# Altium schematic symbol library processor_allwinner.SchLib: 1 symbol
Pins are listed as number, name and electrical type; pins without a type are passive.

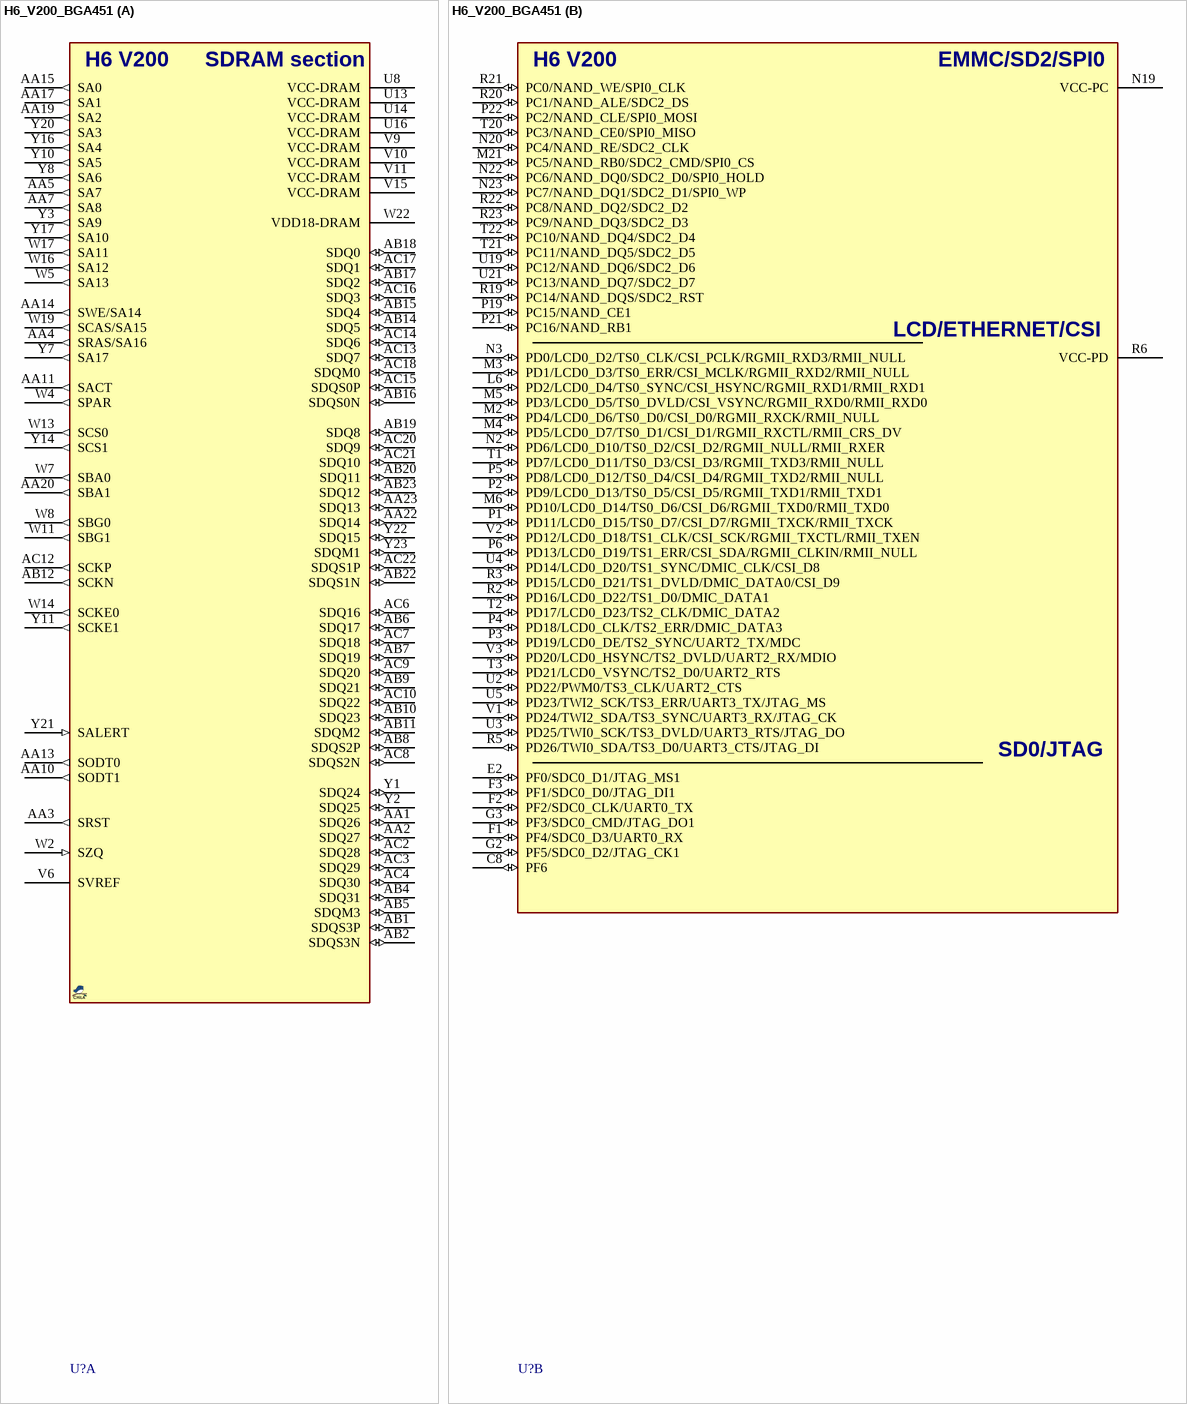
[diagram p0: symbol H6_V200_BGA451]

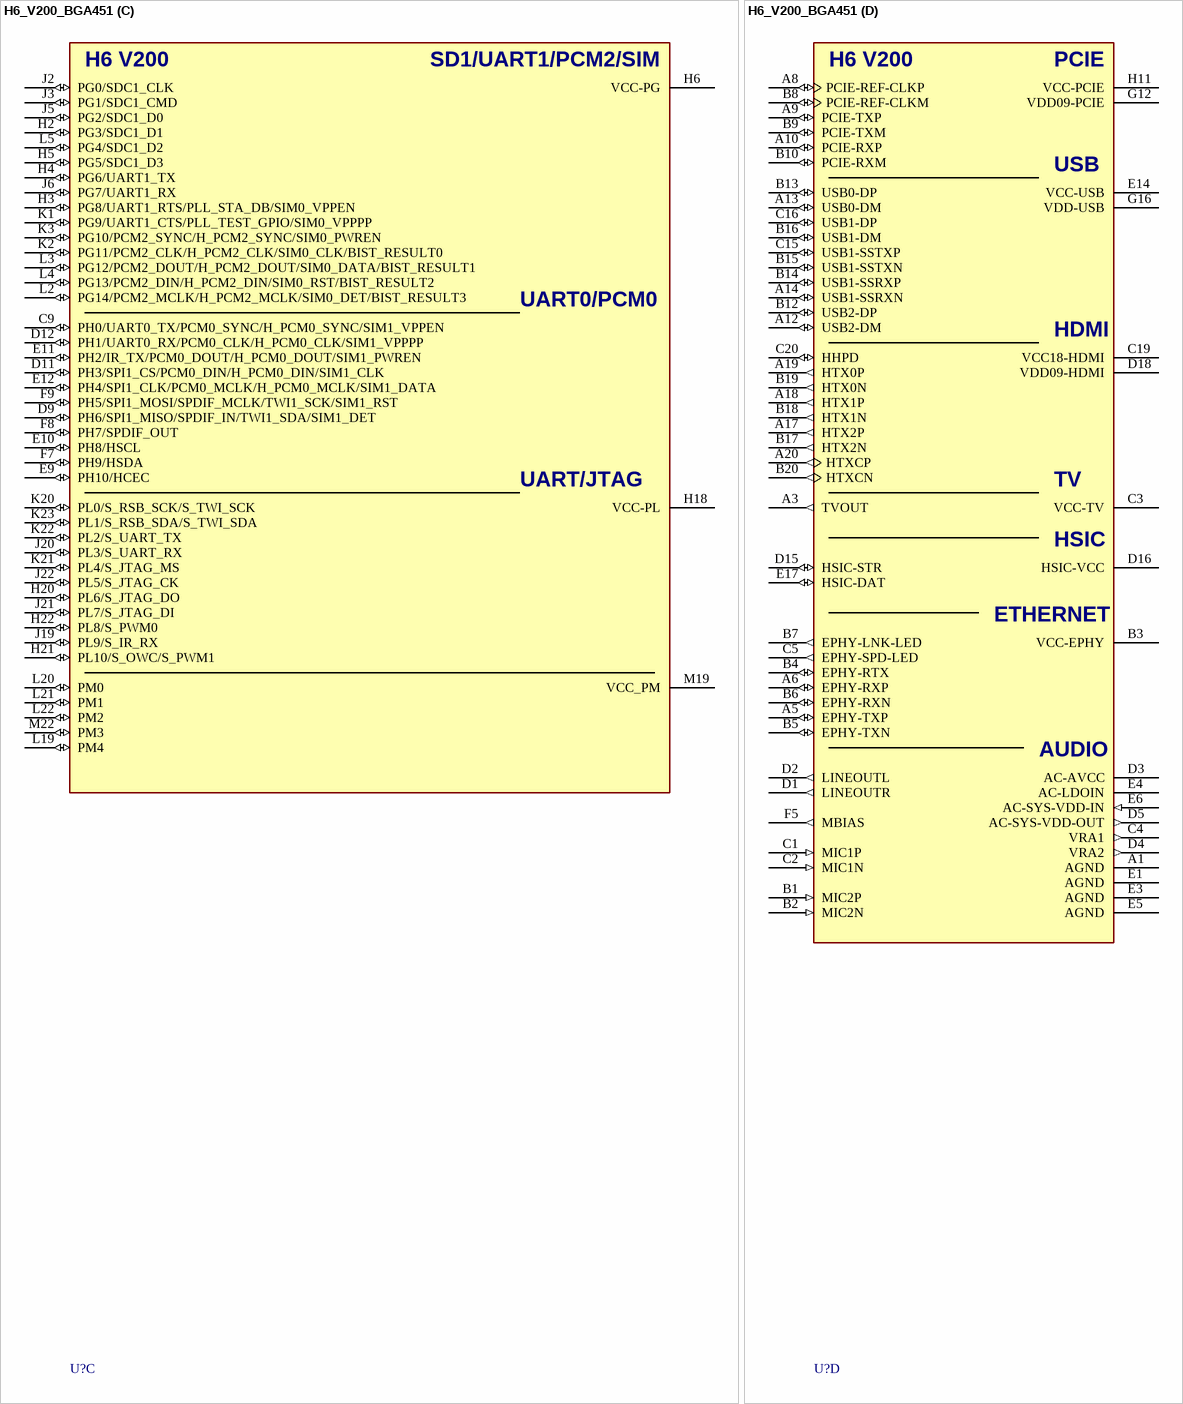
[diagram p1: symbol H6_V200_BGA451]

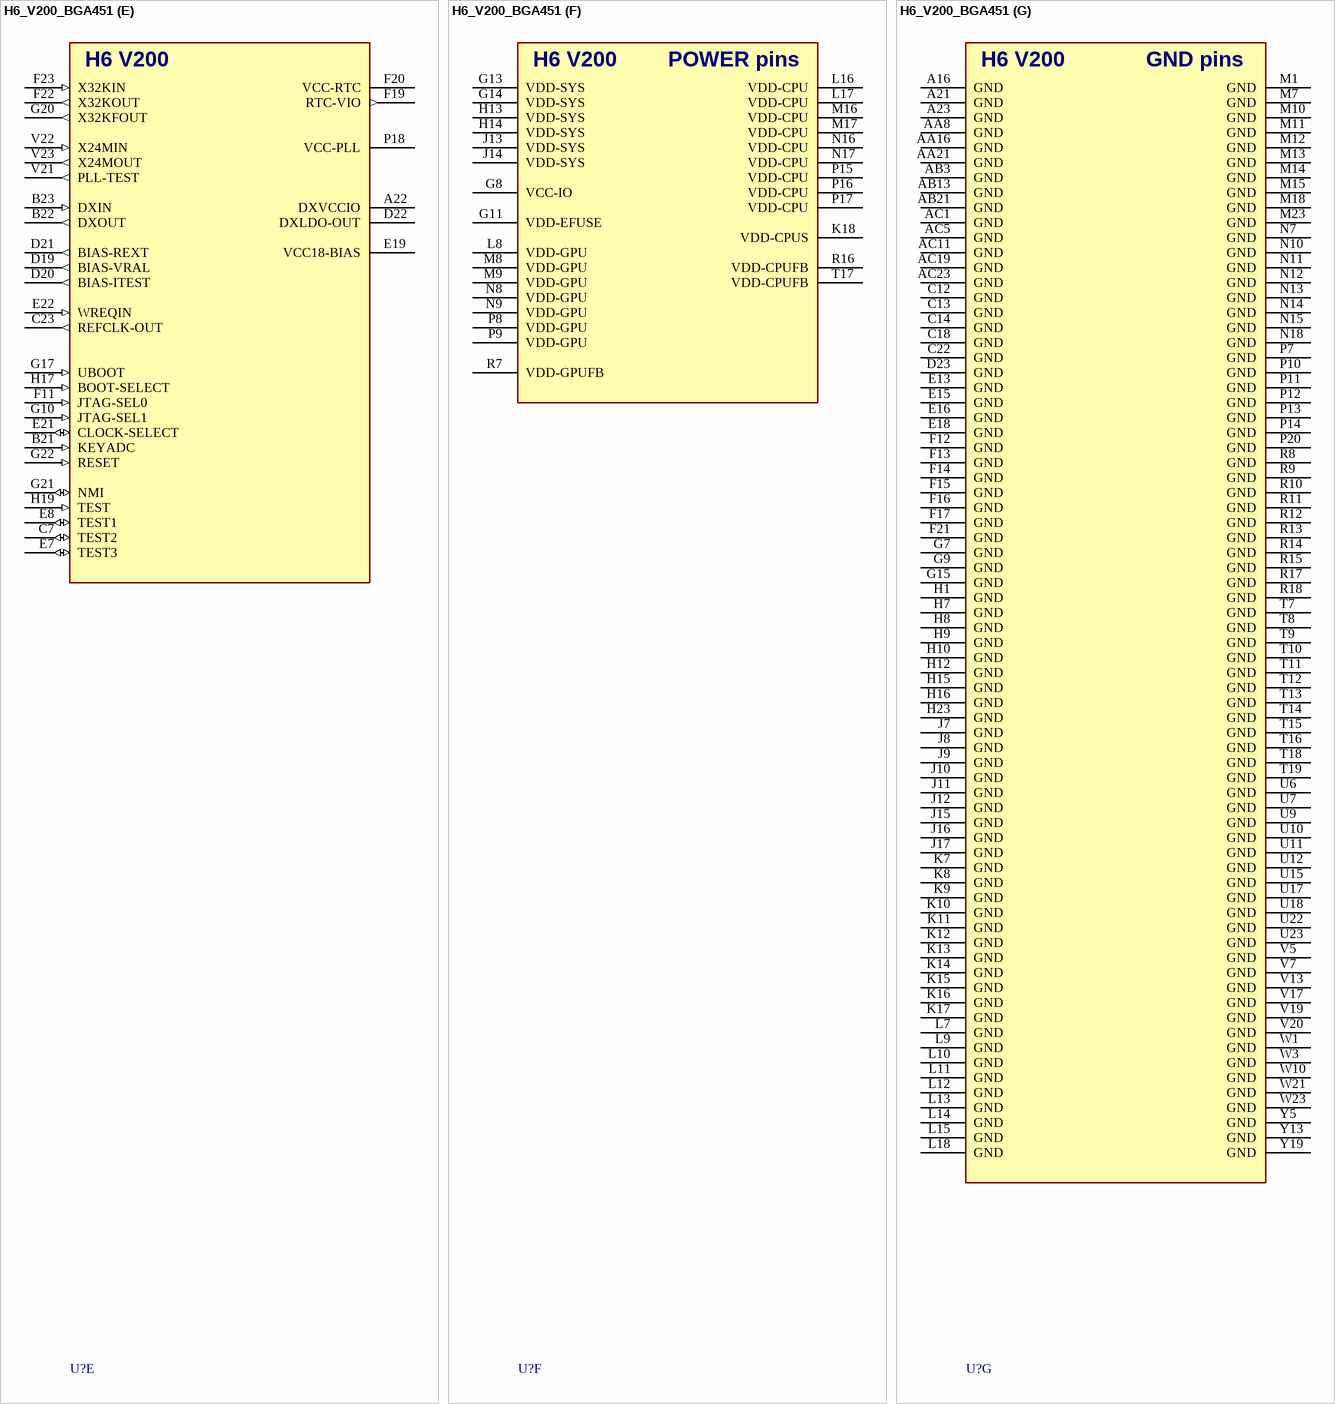
[diagram p2: symbol H6_V200_BGA451]

## H6_V200_BGA451
designator U?, comment Allwinner H6  (value not drawn)
Processor, 4x Cortex-A53; MANF_P#: H6 V200; MANF: Allwinner; PARAM: 4x Cortex-A53; PRICE: 9$; VALUE: Allwinner H6
footprint BGA65_451_S15 (ALLWINNER H6, pitch 0.65mm, 15x15x1.2mm)
part A pins: AA1 SDQ26 (io), AA2 SDQ27 (io), AA3 SRST (out), AA4 SRAS/SA16 (out), AA5 SA7 (out), AA7 SA8 (out), AA10 SODT1 (out), AA11 SACT (out), AA13 SODT0 (out), AA14 SWE/SA14 (out), AA15 SA0 (out), AA17 SA1 (out), AA19 SA2 (out), AA20 SBA1 (out), AA22 SDQ14 (io), AA23 SDQ13 (io), AB1 SDQS3P (io), AB2 SDQS3N (io), AB4 SDQ31 (io), AB5 SDQM3 (io), AB6 SDQ17 (io), AB7 SDQ19 (io), AB8 SDQS2P (io), AB9 SDQ21 (io), AB10 SDQ23 (io), AB11 SDQM2 (io), AB12 SCKN (out), AB14 SDQ5 (io), AB15 SDQ4 (io), AB16 SDQS0N (io), AB17 SDQ2 (io), AB18 SDQ0 (io), AB19 SDQ8 (io), AB20 SDQ11 (io), AB22 SDQS1N (io), AB23 SDQ12 (io), AC2 SDQ28 (io), AC3 SDQ29 (io), AC4 SDQ30 (io), AC6 SDQ16 (io), AC7 SDQ18 (io), AC8 SDQS2N (io), AC9 SDQ20 (io), AC10 SDQ22 (io), AC12 SCKP (out), AC13 SDQ7 (io), AC14 SDQ6 (io), AC15 SDQS0P (io), AC16 SDQ3 (io), AC17 SDQ1 (io), AC18 SDQM0 (io), AC20 SDQ9 (io), AC21 SDQ10 (io), AC22 SDQS1P (io), U8 VCC-DRAM (power), U13 VCC-DRAM (power), U14 VCC-DRAM (power), U16 VCC-DRAM (power), V6 SVREF (power), V9 VCC-DRAM (power), V10 VCC-DRAM (power), V11 VCC-DRAM (power), V15 VCC-DRAM (power), W2 SZQ (in), W4 SPAR (out), W5 SA13 (out), W7 SBA0 (out), W8 SBG0 (out), W11 SBG1 (out), W13 SCS0 (out), W14 SCKE0 (out), W16 SA12 (out), W17 SA11 (out), W19 SCAS/SA15 (out), W22 VDD18-DRAM (power), Y1 SDQ24 (io), Y2 SDQ25 (io), Y3 SA9 (out), Y7 SA17 (out), Y8 SA6 (out), Y10 SA5 (out), Y11 SCKE1 (out), Y14 SCS1 (out), Y16 SA4 (out), Y17 SA10 (out), Y20 SA3 (out), Y21 SALERT (in), Y22 SDQ15 (io), Y23 SDQM1 (io)
part B pins: C8 PF6 (io), E2 PF0/SDC0_D1/JTAG_MS1 (io), F1 PF4/SDC0_D3/UART0_RX (io), F2 PF2/SDC0_CLK/UART0_TX (io), F3 PF1/SDC0_D0/JTAG_DI1 (io), G2 PF5/SDC0_D2/JTAG_CK1 (io), G3 PF3/SDC0_CMD/JTAG_DO1 (io), L6 PD2/LCD0_D4/TS0_SYNC/CSI_HSYNC/RGMII_RXD1/RMII_RXD1 (io), M2 PD4/LCD0_D6/TS0_D0/CSI_D0/RGMII_RXCK/RMII_NULL (io), M3 PD1/LCD0_D3/TS0_ERR/CSI_MCLK/RGMII_RXD2/RMII_NULL (io), M4 PD5/LCD0_D7/TS0_D1/CSI_D1/RGMII_RXCTL/RMII_CRS_DV (io), M5 PD3/LCD0_D5/TS0_DVLD/CSI_VSYNC/RGMII_RXD0/RMII_RXD0 (io), M6 PD10/LCD0_D14/TS0_D6/CSI_D6/RGMII_TXD0/RMII_TXD0 (io), M21 PC5/NAND_RB0/SDC2_CMD/SPI0_CS (io), N2 PD6/LCD0_D10/TS0_D2/CSI_D2/RGMII_NULL/RMII_RXER (io), N3 PD0/LCD0_D2/TS0_CLK/CSI_PCLK/RGMII_RXD3/RMII_NULL (io), N19 VCC-PC (power), N20 PC4/NAND_RE/SDC2_CLK (io), N22 PC6/NAND_DQ0/SDC2_D0/SPI0_HOLD (io), N23 PC7/NAND_DQ1/SDC2_D1/SPI0_WP (io), P1 PD11/LCD0_D15/TS0_D7/CSI_D7/RGMII_TXCK/RMII_TXCK (io), P2 PD9/LCD0_D13/TS0_D5/CSI_D5/RGMII_TXD1/RMII_TXD1 (io), P3 PD19/LCD0_DE/TS2_SYNC/UART2_TX/MDC (io), P4 PD18/LCD0_CLK/TS2_ERR/DMIC_DATA3 (io), P5 PD8/LCD0_D12/TS0_D4/CSI_D4/RGMII_TXD2/RMII_NULL (io), P6 PD13/LCD0_D19/TS1_ERR/CSI_SDA/RGMII_CLKIN/RMII_NULL (io), P19 PC15/NAND_CE1 (io), P21 PC16/NAND_RB1 (io), P22 PC2/NAND_CLE/SPI0_MOSI (io), R2 PD16/LCD0_D22/TS1_D0/DMIC_DATA1 (io), R3 PD15/LCD0_D21/TS1_DVLD/DMIC_DATA0/CSI_D9 (io), R5 PD26/TWI0_SDA/TS3_D0/UART3_CTS/JTAG_DI (io), R6 VCC-PD (power), R19 PC14/NAND_DQS/SDC2_RST (io), R20 PC1/NAND_ALE/SDC2_DS (io), R21 PC0/NAND_WE/SPI0_CLK (io), R22 PC8/NAND_DQ2/SDC2_D2 (io), R23 PC9/NAND_DQ3/SDC2_D3 (io), T1 PD7/LCD0_D11/TS0_D3/CSI_D3/RGMII_TXD3/RMII_NULL (io), T2 PD17/LCD0_D23/TS2_CLK/DMIC_DATA2 (io), T3 PD21/LCD0_VSYNC/TS2_D0/UART2_RTS (io), T20 PC3/NAND_CE0/SPI0_MISO (io), T21 PC11/NAND_DQ5/SDC2_D5 (io), T22 PC10/NAND_DQ4/SDC2_D4 (io), U2 PD22/PWM0/TS3_CLK/UART2_CTS (io), U3 PD25/TWI0_SCK/TS3_DVLD/UART3_RTS/JTAG_DO (io), U4 PD14/LCD0_D20/TS1_SYNC/DMIC_CLK/CSI_D8 (io), U5 PD23/TWI2_SCK/TS3_ERR/UART3_TX/JTAG_MS (io), U19 PC12/NAND_DQ6/SDC2_D6 (io), U21 PC13/NAND_DQ7/SDC2_D7 (io), V1 PD24/TWI2_SDA/TS3_SYNC/UART3_RX/JTAG_CK (io), V2 PD12/LCD0_D18/TS1_CLK/CSI_SCK/RGMII_TXCTL/RMII_TXEN (io), V3 PD20/LCD0_HSYNC/TS2_DVLD/UART2_RX/MDIO (io)
part C pins: C9 PH0/UART0_TX/PCM0_SYNC/H_PCM0_SYNC/SIM1_VPPEN (io), D9 PH6/SPI1_MISO/SPDIF_IN/TWI1_SDA/SIM1_DET (io), D11 PH3/SPI1_CS/PCM0_DIN/H_PCM0_DIN/SIM1_CLK (io), D12 PH1/UART0_RX/PCM0_CLK/H_PCM0_CLK/SIM1_VPPPP (io), E9 PH10/HCEC (io), E10 PH8/HSCL (io), E11 PH2/IR_TX/PCM0_DOUT/H_PCM0_DOUT/SIM1_PWREN (io), E12 PH4/SPI1_CLK/PCM0_MCLK/H_PCM0_MCLK/SIM1_DATA (io), F7 PH9/HSDA (io), F8 PH7/SPDIF_OUT (io), F9 PH5/SPI1_MOSI/SPDIF_MCLK/TWI1_SCK/SIM1_RST (io), H2 PG3/SDC1_D1 (io), H3 PG8/UART1_RTS/PLL_STA_DB/SIM0_VPPEN (io), H4 PG6/UART1_TX (io), H5 PG5/SDC1_D3 (io), H6 VCC-PG (power), H18 VCC-PL (power), H20 PL6/S_JTAG_DO (io), H21 PL10/S_OWC/S_PWM1 (io), H22 PL8/S_PWM0 (io), J2 PG0/SDC1_CLK (io), J3 PG1/SDC1_CMD (io), J5 PG2/SDC1_D0 (io), J6 PG7/UART1_RX (io), J19 PL9/S_IR_RX (io), J20 PL3/S_UART_RX (io), J21 PL7/S_JTAG_DI (io), J22 PL5/S_JTAG_CK (io), K1 PG9/UART1_CTS/PLL_TEST_GPIO/SIM0_VPPPP (io), K2 PG11/PCM2_CLK/H_PCM2_CLK/SIM0_CLK/BIST_RESULT0 (io), K3 PG10/PCM2_SYNC/H_PCM2_SYNC/SIM0_PWREN (io), K20 PL0/S_RSB_SCK/S_TWI_SCK (io), K21 PL4/S_JTAG_MS (io), K22 PL2/S_UART_TX (io), K23 PL1/S_RSB_SDA/S_TWI_SDA (io), L2 PG14/PCM2_MCLK/H_PCM2_MCLK/SIM0_DET/BIST_RESULT3 (io), L3 PG12/PCM2_DOUT/H_PCM2_DOUT/SIM0_DATA/BIST_RESULT1 (io), L4 PG13/PCM2_DIN/H_PCM2_DIN/SIM0_RST/BIST_RESULT2 (io), L5 PG4/SDC1_D2 (io), L19 PM4 (io), L20 PM0 (io), L21 PM1 (io), L22 PM2 (io), M19 VCC_PM (power), M22 PM3 (io)
part D pins: A1 AGND (power), A3 TVOUT (out), A5 EPHY-TXP (io), A6 EPHY-RXP (io), A8 PCIE-REF-CLKP (io), A9 PCIE-TXP (io), A10 PCIE-RXP (io), A12 USB2-DM (io), A13 USB0-DM (io), A14 USB1-SSRXN (io), A17 HTX2P (out), A18 HTX1P (out), A19 HTX0P (out), A20 HTXCP (out), B1 MIC2P (in), B2 MIC2N (in), B3 VCC-EPHY (power), B4 EPHY-RTX (io), B5 EPHY-TXN (io), B6 EPHY-RXN (io), B7 EPHY-LNK-LED (out), B8 PCIE-REF-CLKM (io), B9 PCIE-TXM (io), B10 PCIE-RXM (io), B12 USB2-DP (io), B13 USB0-DP (io), B14 USB1-SSRXP (io), B15 USB1-SSTXN (io), B16 USB1-DM (io), B17 HTX2N (out), B18 HTX1N (out), B19 HTX0N (out), B20 HTXCN (out), C1 MIC1P (in), C2 MIC1N (in), C3 VCC-TV (power), C4 VRA1 (out), C5 EPHY-SPD-LED (out), C15 USB1-SSTXP (io), C16 USB1-DP (io), C19 VCC18-HDMI (power), C20 HHPD (io), D1 LINEOUTR (out), D2 LINEOUTL (out), D3 AC-AVCC (power), D4 VRA2 (out), D5 AC-SYS-VDD-OUT (out), D15 HSIC-STR (io), D16 HSIC-VCC (power), D18 VDD09-HDMI (power), E1 AGND (power), E3 AGND (power), E4 AC-LDOIN (power), E5 AGND (power), E6 AC-SYS-VDD-IN (in), E14 VCC-USB (power), E17 HSIC-DAT (io), F5 MBIAS (out), G12 VDD09-PCIE (power), G16 VDD-USB (power), H11 VCC-PCIE (power)
part E pins: A22 DXVCCIO (power), B21 KEYADC (in), B22 DXOUT (out), B23 DXIN (in), C7 TEST2 (io), C23 REFCLK-OUT (out), D19 BIAS-VRAL (out), D20 BIAS-ITEST (out), D21 BIAS-REXT (out), D22 DXLDO-OUT (power), E7 TEST3 (io), E8 TEST1 (io), E19 VCC18-BIAS (power), E21 CLOCK-SELECT (io), E22 WREQIN (in), F11 JTAG-SEL0 (in), F19 RTC-VIO (out), F20 VCC-RTC (power), F22 X32KOUT (out), F23 X32KIN (in), G10 JTAG-SEL1 (in), G17 UBOOT (in), G20 X32KFOUT (out), G21 NMI (io), G22 RESET (in), H17 BOOT-SELECT (in), H19 TEST (in), P18 VCC-PLL (power), V21 PLL-TEST (out), V22 X24MIN (in), V23 X24MOUT (out)
part F pins: G8 VCC-IO (power), G11 VDD-EFUSE (power), G13 VDD-SYS (power), G14 VDD-SYS (power), H13 VDD-SYS (power), H14 VDD-SYS (power), J13 VDD-SYS (power), J14 VDD-SYS (power), K18 VDD-CPUS (power), L8 VDD-GPU (power), L16 VDD-CPU (power), L17 VDD-CPU (power), M8 VDD-GPU (power), M9 VDD-GPU (power), M16 VDD-CPU (power), M17 VDD-CPU (power), N8 VDD-GPU (power), N9 VDD-GPU (power), N16 VDD-CPU (power), N17 VDD-CPU (power), P8 VDD-GPU (power), P9 VDD-GPU (power), P15 VDD-CPU (power), P16 VDD-CPU (power), P17 VDD-CPU (power), R7 VDD-GPUFB (power), R16 VDD-CPUFB (power), T17 VDD-CPUFB (power)
part G pins: A16 GND (power), A21 GND (power), A23 GND (power), AA8 GND (power), AA16 GND (power), AA21 GND (power), AB3 GND (power), AB13 GND (power), AB21 GND (power), AC1 GND (power), AC5 GND (power), AC11 GND (power), AC19 GND (power), AC23 GND (power), C12 GND (power), C13 GND (power), C14 GND (power), C18 GND (power), C22 GND (power), D23 GND (power), E13 GND (power), E15 GND (power), E16 GND (power), E18 GND (power), F12 GND (power), F13 GND (power), F14 GND (power), F15 GND (power), F16 GND (power), F17 GND (power), F21 GND (power), G7 GND (power), G9 GND (power), G15 GND (power), H1 GND (power), H7 GND (power), H8 GND (power), H9 GND (power), H10 GND (power), H12 GND (power), H15 GND (power), H16 GND (power), H23 GND (power), J7 GND (power), J8 GND (power), J9 GND (power), J10 GND (power), J11 GND (power), J12 GND (power), J15 GND (power), J16 GND (power), J17 GND (power), K7 GND (power), K8 GND (power), K9 GND (power), K10 GND (power), K11 GND (power), K12 GND (power), K13 GND (power), K14 GND (power), K15 GND (power), K16 GND (power), K17 GND (power), L7 GND (power), L9 GND (power), L10 GND (power), L11 GND (power), L12 GND (power), L13 GND (power), L14 GND (power), L15 GND (power), L18 GND (power), M1 GND (power), M7 GND (power), M10 GND (power), M11 GND (power), M12 GND (power), M13 GND (power), M14 GND (power), M15 GND (power), M18 GND (power), M23 GND (power), N7 GND (power), N10 GND (power), N11 GND (power), N12 GND (power), N13 GND (power), N14 GND (power), N15 GND (power), N18 GND (power), P7 GND (power), P10 GND (power), P11 GND (power), P12 GND (power), P13 GND (power), P14 GND (power), P20 GND (power), R8 GND (power), R9 GND (power), R10 GND (power), R11 GND (power), R12 GND (power), R13 GND (power), R14 GND (power), R15 GND (power), R17 GND (power), R18 GND (power), T7 GND (power), T8 GND (power), T9 GND (power), T10 GND (power), T11 GND (power), T12 GND (power), T13 GND (power), T14 GND (power), T15 GND (power), T16 GND (power), T18 GND (power), T19 GND (power), U6 GND (power), U7 GND (power), U9 GND (power), U10 GND (power), U11 GND (power), U12 GND (power), U15 GND (power), U17 GND (power), U18 GND (power), U22 GND (power), U23 GND (power), V5 GND (power), V7 GND (power), V13 GND (power), V17 GND (power), V19 GND (power), V20 GND (power), W1 GND (power), W3 GND (power), W10 GND (power), W21 GND (power), W23 GND (power), Y5 GND (power), Y13 GND (power), Y19 GND (power)
part A text: SDRAM section
part B text: EMMC/SD2/SPI0; LCD/ETHERNET/CSI; SD0/JTAG
part C text: SD1/UART1/PCM2/SIM; UART0/PCM0; UART/JTAG
part D text: PCIE; USB; HDMI; TV; HSIC; ETHERNET; AUDIO
part F text: POWER pins
part G text: GND pins